# Altium integrated library Actel IGLOO.IntLib: 429 symbols (part 8 of 45)
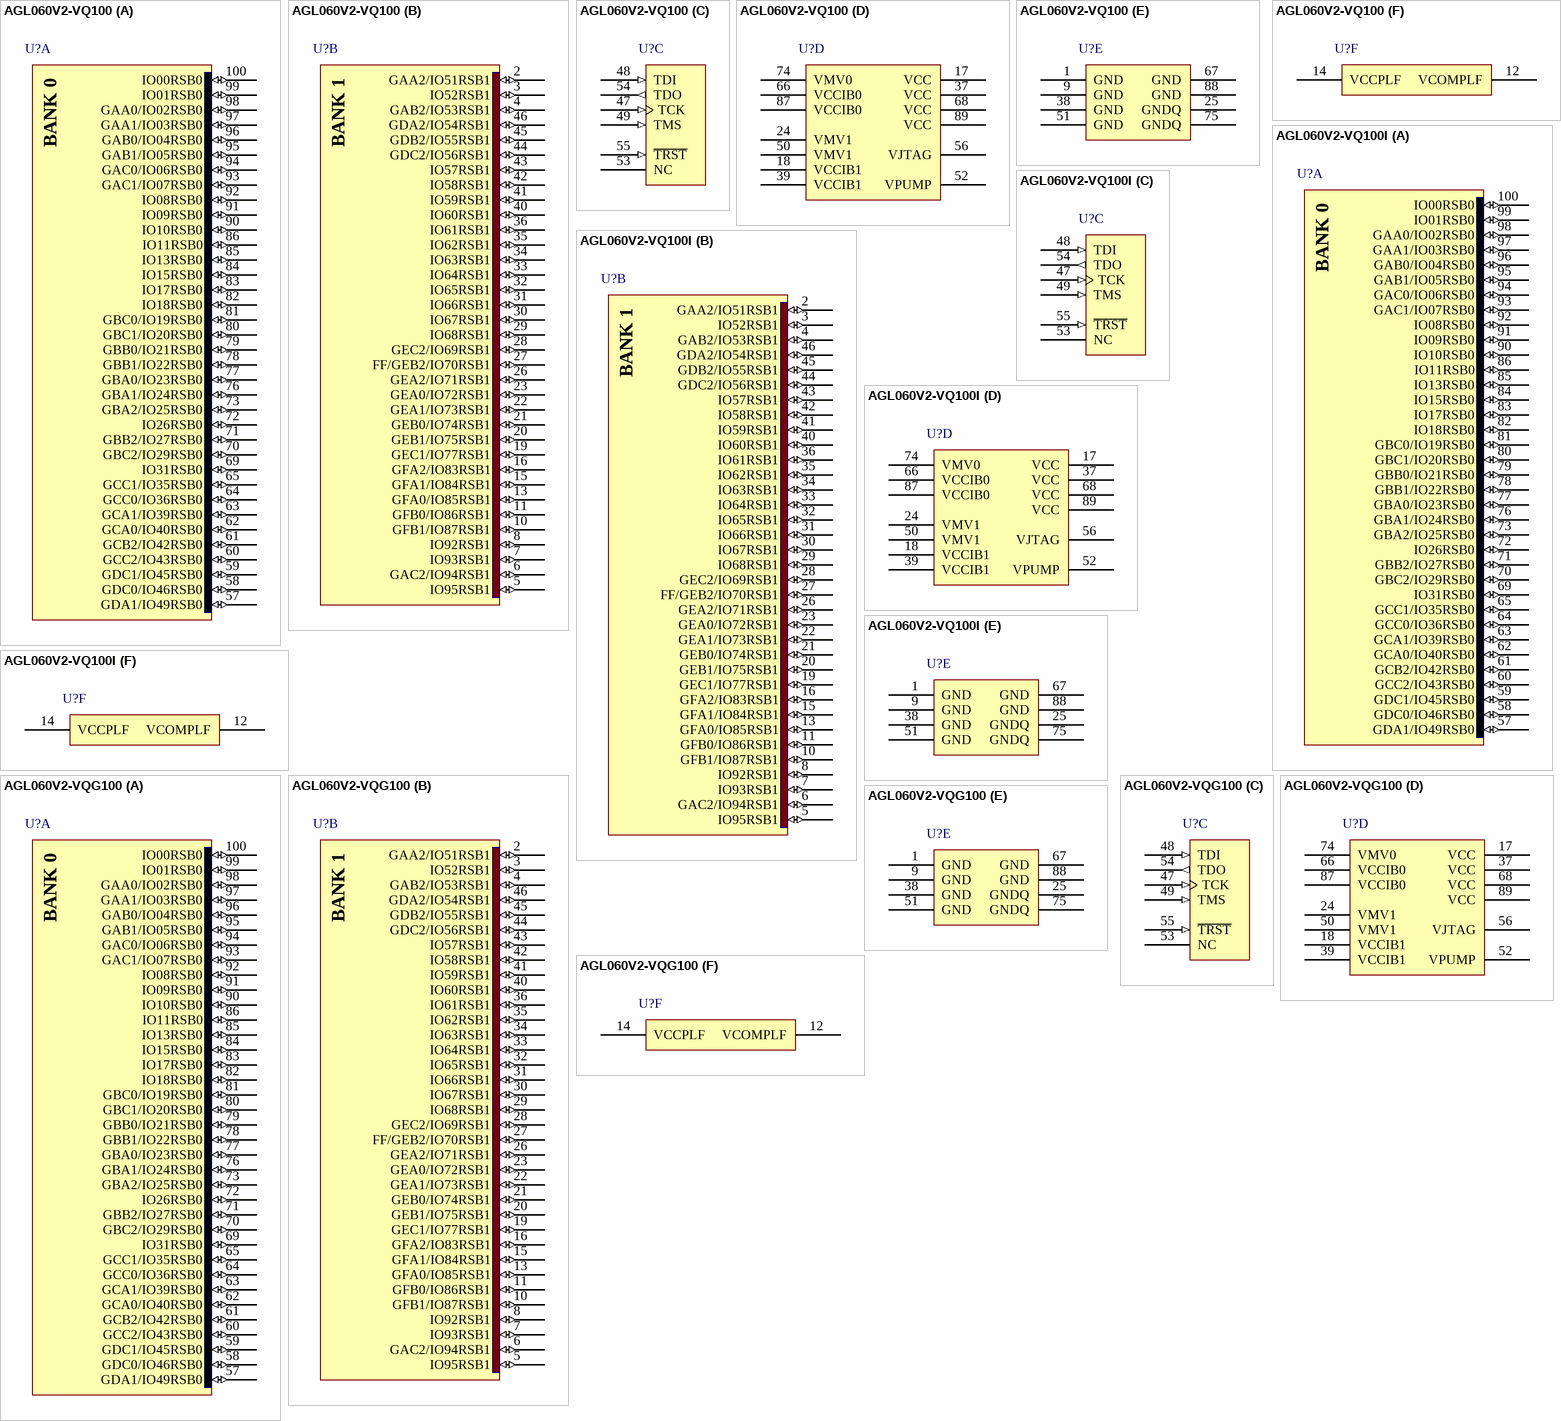
[diagram p360: symbols AGL060V2-VQ100 to AGL060V2-VQG100]

## AGL060V2-VQ100I
designator U?
IGLOO Low-Power Flash 1.2/1.5V FPGA with Flash*Freeze, 71 User IOs, 60K System Gates, 18Kbits RAM, 1Kbit Flash ROM, 1 PLL, 100-Pin TQFP, Industrial Grade; DatasheetVersion: v2.0, Nov-2009; PackageVersion: rev40, Jun-2011; PackageReference: VQ100; PackageDescription: 100-Pin Plastic Quad Flat Pack (VQ100); Code_JEDEC: MS-026-AED; ComponentLink1Description: Manufacturer URL; ComponentLink1URL: http://www.actel.com/; ComponentLink2Description: IGLOO Datasheet; ComponentLink2URL: http://www.actel.com/documents/IGLOO_DS.pdf; ComponentLink3Description: Package Mechanical Drawings; ComponentLink3URL: http://www.actel.com/documents/PckgMechDrwngs.pdf; ComponentLink4Description: IGLOO Documents; ComponentLink4URL: http://www.actel.com/products/igloo/docs.aspx
footprint VQ100_N (Thin QFP, 100-Leads, Body 14x14mm, Pitch 0.5mm, IPC Medium Density)
footprint VQ100_L (Thin QFP, 100-Leads, Body 14x14mm, Pitch 0.5mm, IPC High Density)
footprint VQ100_M (Thin QFP, 100-Leads, Body 14x14mm, Pitch 0.5mm, IPC Low Density)
part A pins: 57 GDA1/IO49RSB0 (io), 58 GDC0/IO46RSB0 (io), 59 GDC1/IO45RSB0 (io), 60 GCC2/IO43RSB0 (io), 61 GCB2/IO42RSB0 (io), 62 GCA0/IO40RSB0 (io), 63 GCA1/IO39RSB0 (io), 64 GCC0/IO36RSB0 (io), 65 GCC1/IO35RSB0 (io), 69 IO31RSB0 (io), 70 GBC2/IO29RSB0 (io), 71 GBB2/IO27RSB0 (io), 72 IO26RSB0 (io), 73 GBA2/IO25RSB0 (io), 76 GBA1/IO24RSB0 (io), 77 GBA0/IO23RSB0 (io), 78 GBB1/IO22RSB0 (io), 79 GBB0/IO21RSB0 (io), 80 GBC1/IO20RSB0 (io), 81 GBC0/IO19RSB0 (io), 82 IO18RSB0 (io), 83 IO17RSB0 (io), 84 IO15RSB0 (io), 85 IO13RSB0 (io), 86 IO11RSB0 (io), 90 IO10RSB0 (io), 91 IO09RSB0 (io), 92 IO08RSB0 (io), 93 GAC1/IO07RSB0 (io), 94 GAC0/IO06RSB0 (io), 95 GAB1/IO05RSB0 (io), 96 GAB0/IO04RSB0 (io), 97 GAA1/IO03RSB0 (io), 98 GAA0/IO02RSB0 (io), 99 IO01RSB0 (io), 100 IO00RSB0 (io)
part B pins: 2 GAA2/IO51RSB1 (io), 3 IO52RSB1 (io), 4 GAB2/IO53RSB1 (io), 5 IO95RSB1 (io), 6 GAC2/IO94RSB1 (io), 7 IO93RSB1 (io), 8 IO92RSB1 (io), 10 GFB1/IO87RSB1 (io), 11 GFB0/IO86RSB1 (io), 13 GFA0/IO85RSB1 (io), 15 GFA1/IO84RSB1 (io), 16 GFA2/IO83RSB1 (io), 19 GEC1/IO77RSB1 (io), 20 GEB1/IO75RSB1 (io), 21 GEB0/IO74RSB1 (io), 22 GEA1/IO73RSB1 (io), 23 GEA0/IO72RSB1 (io), 26 GEA2/IO71RSB1 (io), 27 FF/GEB2/IO70RSB1 (io), 28 GEC2/IO69RSB1 (io), 29 IO68RSB1 (io), 30 IO67RSB1 (io), 31 IO66RSB1 (io), 32 IO65RSB1 (io), 33 IO64RSB1 (io), 34 IO63RSB1 (io), 35 IO62RSB1 (io), 36 IO61RSB1 (io), 40 IO60RSB1 (io), 41 IO59RSB1 (io), 42 IO58RSB1 (io), 43 IO57RSB1 (io), 44 GDC2/IO56RSB1 (io), 45 GDB2/IO55RSB1 (io), 46 GDA2/IO54RSB1 (io)
part C pins: 47 TCK (in), 48 TDI (in), 49 TMS (in), 53 NC, 54 TDO (out), 55 ~{TRST} (in)
part D pins: 17 VCC (power), 18 VCCIB1 (power), 24 VMV1 (power), 37 VCC (power), 39 VCCIB1 (power), 50 VMV1 (power), 52 VPUMP (power), 56 VJTAG (power), 66 VCCIB0 (power), 68 VCC (power), 74 VMV0 (power), 87 VCCIB0 (power), 89 VCC (power)
part E pins: 1 GND (power), 9 GND (power), 25 GNDQ (power), 38 GND (power), 51 GND (power), 67 GND (power), 75 GNDQ (power), 88 GND (power)
part F pins: 12 VCOMPLF (power), 14 VCCPLF (power)
part A text: BANK 0
part B text: BANK 1

## AGL060V2-VQG100
designator U?
IGLOO Low-Power Flash 1.2/1.5V FPGA with Flash*Freeze, 71 User IOs, 60K System Gates, 18Kbits RAM, 1Kbit Flash ROM, 1 PLL, 100-Pin TQFP, Commercial Grade, Pb-Free; DatasheetVersion: v2.0, Nov-2009; PackageVersion: rev40, Jun-2011; PackageReference: VQ100; PackageDescription: 100-Pin Plastic Quad Flat Pack (VQ100); Code_JEDEC: MS-026-AED; ComponentLink1Description: Manufacturer URL; ComponentLink1URL: http://www.actel.com/; ComponentLink2Description: IGLOO Datasheet; ComponentLink2URL: http://www.actel.com/documents/IGLOO_DS.pdf; ComponentLink3Description: Package Mechanical Drawings; ComponentLink3URL: http://www.actel.com/documents/PckgMechDrwngs.pdf; ComponentLink4Description: IGLOO Documents; ComponentLink4URL: http://www.actel.com/products/igloo/docs.aspx
footprint VQ100_N (Thin QFP, 100-Leads, Body 14x14mm, Pitch 0.5mm, IPC Medium Density)
footprint VQ100_L (Thin QFP, 100-Leads, Body 14x14mm, Pitch 0.5mm, IPC High Density)
footprint VQ100_M (Thin QFP, 100-Leads, Body 14x14mm, Pitch 0.5mm, IPC Low Density)
part A pins: 57 GDA1/IO49RSB0 (io), 58 GDC0/IO46RSB0 (io), 59 GDC1/IO45RSB0 (io), 60 GCC2/IO43RSB0 (io), 61 GCB2/IO42RSB0 (io), 62 GCA0/IO40RSB0 (io), 63 GCA1/IO39RSB0 (io), 64 GCC0/IO36RSB0 (io), 65 GCC1/IO35RSB0 (io), 69 IO31RSB0 (io), 70 GBC2/IO29RSB0 (io), 71 GBB2/IO27RSB0 (io), 72 IO26RSB0 (io), 73 GBA2/IO25RSB0 (io), 76 GBA1/IO24RSB0 (io), 77 GBA0/IO23RSB0 (io), 78 GBB1/IO22RSB0 (io), 79 GBB0/IO21RSB0 (io), 80 GBC1/IO20RSB0 (io), 81 GBC0/IO19RSB0 (io), 82 IO18RSB0 (io), 83 IO17RSB0 (io), 84 IO15RSB0 (io), 85 IO13RSB0 (io), 86 IO11RSB0 (io), 90 IO10RSB0 (io), 91 IO09RSB0 (io), 92 IO08RSB0 (io), 93 GAC1/IO07RSB0 (io), 94 GAC0/IO06RSB0 (io), 95 GAB1/IO05RSB0 (io), 96 GAB0/IO04RSB0 (io), 97 GAA1/IO03RSB0 (io), 98 GAA0/IO02RSB0 (io), 99 IO01RSB0 (io), 100 IO00RSB0 (io)
part B pins: 2 GAA2/IO51RSB1 (io), 3 IO52RSB1 (io), 4 GAB2/IO53RSB1 (io), 5 IO95RSB1 (io), 6 GAC2/IO94RSB1 (io), 7 IO93RSB1 (io), 8 IO92RSB1 (io), 10 GFB1/IO87RSB1 (io), 11 GFB0/IO86RSB1 (io), 13 GFA0/IO85RSB1 (io), 15 GFA1/IO84RSB1 (io), 16 GFA2/IO83RSB1 (io), 19 GEC1/IO77RSB1 (io), 20 GEB1/IO75RSB1 (io), 21 GEB0/IO74RSB1 (io), 22 GEA1/IO73RSB1 (io), 23 GEA0/IO72RSB1 (io), 26 GEA2/IO71RSB1 (io), 27 FF/GEB2/IO70RSB1 (io), 28 GEC2/IO69RSB1 (io), 29 IO68RSB1 (io), 30 IO67RSB1 (io), 31 IO66RSB1 (io), 32 IO65RSB1 (io), 33 IO64RSB1 (io), 34 IO63RSB1 (io), 35 IO62RSB1 (io), 36 IO61RSB1 (io), 40 IO60RSB1 (io), 41 IO59RSB1 (io), 42 IO58RSB1 (io), 43 IO57RSB1 (io), 44 GDC2/IO56RSB1 (io), 45 GDB2/IO55RSB1 (io), 46 GDA2/IO54RSB1 (io)
part C pins: 47 TCK (in), 48 TDI (in), 49 TMS (in), 53 NC, 54 TDO (out), 55 ~{TRST} (in)
part D pins: 17 VCC (power), 18 VCCIB1 (power), 24 VMV1 (power), 37 VCC (power), 39 VCCIB1 (power), 50 VMV1 (power), 52 VPUMP (power), 56 VJTAG (power), 66 VCCIB0 (power), 68 VCC (power), 74 VMV0 (power), 87 VCCIB0 (power), 89 VCC (power)
part E pins: 1 GND (power), 9 GND (power), 25 GNDQ (power), 38 GND (power), 51 GND (power), 67 GND (power), 75 GNDQ (power), 88 GND (power)
part F pins: 12 VCOMPLF (power), 14 VCCPLF (power)
part A text: BANK 0
part B text: BANK 1

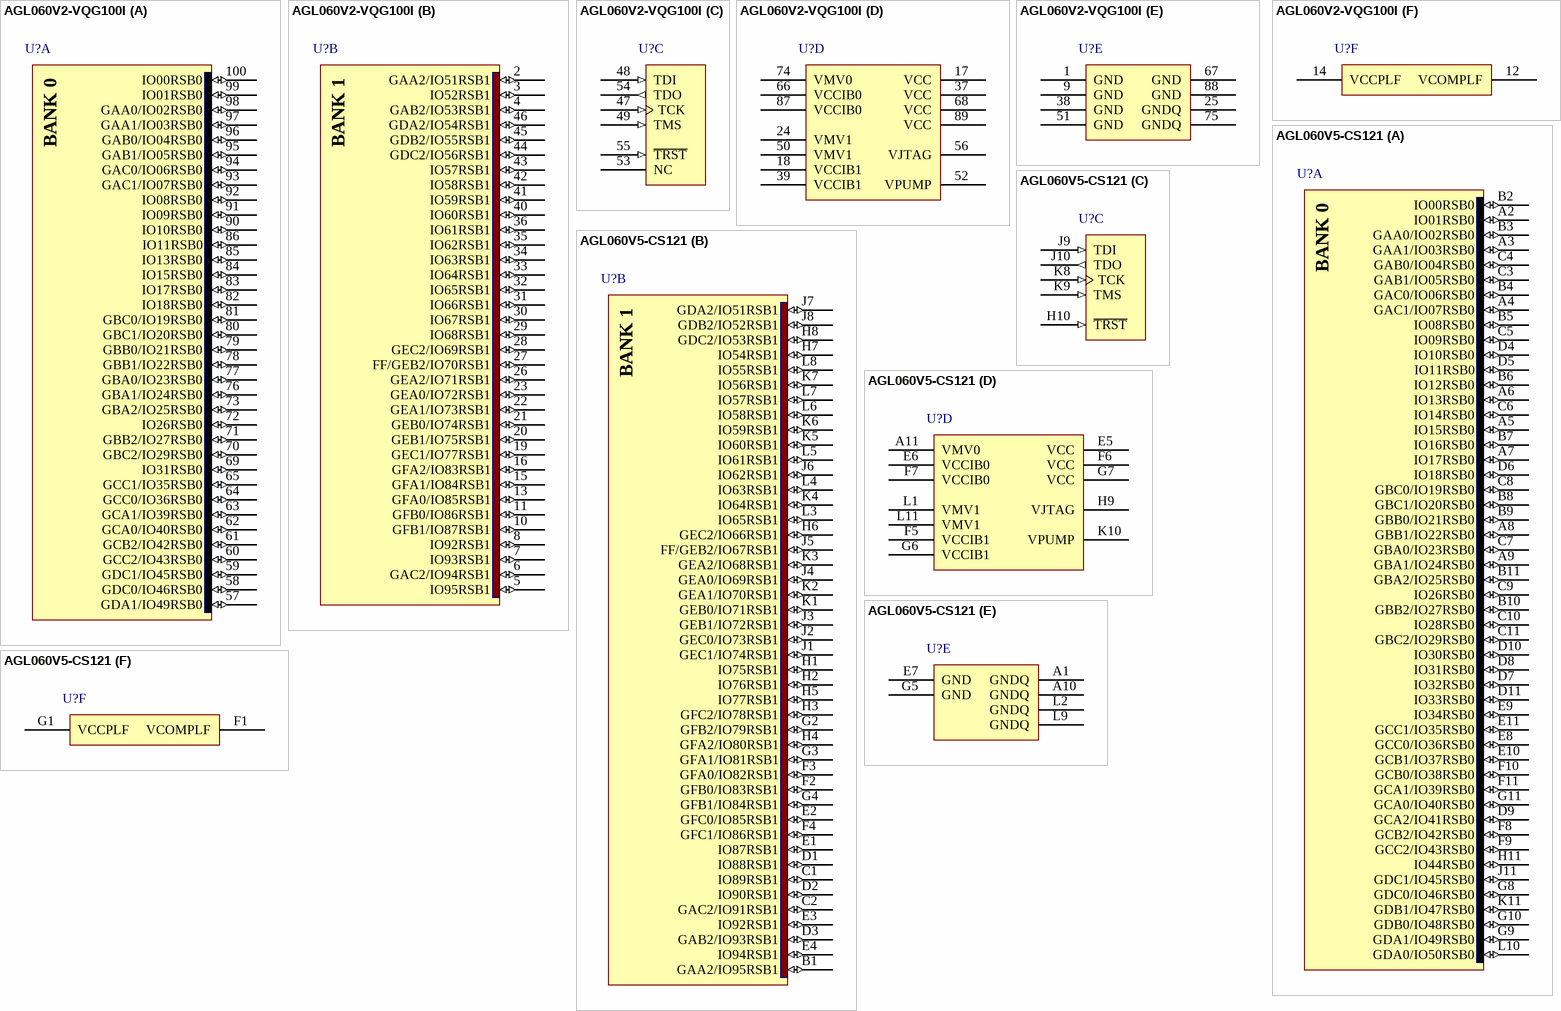
[diagram p24: symbols AGL060V2-VQG100I to AGL060V5-CS121]

## AGL060V2-VQG100I
designator U?
IGLOO Low-Power Flash 1.2/1.5V FPGA with Flash*Freeze, 71 User IOs, 60K System Gates, 18Kbits RAM, 1Kbit Flash ROM, 1 PLL, 100-Pin TQFP, Industrial Grade, Pb-Free; DatasheetVersion: v2.0, Nov-2009; PackageVersion: rev40, Jun-2011; PackageReference: VQ100; PackageDescription: 100-Pin Plastic Quad Flat Pack (VQ100); Code_JEDEC: MS-026-AED; ComponentLink1Description: Manufacturer URL; ComponentLink1URL: http://www.actel.com/; ComponentLink2Description: IGLOO Datasheet; ComponentLink2URL: http://www.actel.com/documents/IGLOO_DS.pdf; ComponentLink3Description: Package Mechanical Drawings; ComponentLink3URL: http://www.actel.com/documents/PckgMechDrwngs.pdf; ComponentLink4Description: IGLOO Documents; ComponentLink4URL: http://www.actel.com/products/igloo/docs.aspx
footprint VQ100_N (Thin QFP, 100-Leads, Body 14x14mm, Pitch 0.5mm, IPC Medium Density)
footprint VQ100_L (Thin QFP, 100-Leads, Body 14x14mm, Pitch 0.5mm, IPC High Density)
footprint VQ100_M (Thin QFP, 100-Leads, Body 14x14mm, Pitch 0.5mm, IPC Low Density)
part A pins: 57 GDA1/IO49RSB0 (io), 58 GDC0/IO46RSB0 (io), 59 GDC1/IO45RSB0 (io), 60 GCC2/IO43RSB0 (io), 61 GCB2/IO42RSB0 (io), 62 GCA0/IO40RSB0 (io), 63 GCA1/IO39RSB0 (io), 64 GCC0/IO36RSB0 (io), 65 GCC1/IO35RSB0 (io), 69 IO31RSB0 (io), 70 GBC2/IO29RSB0 (io), 71 GBB2/IO27RSB0 (io), 72 IO26RSB0 (io), 73 GBA2/IO25RSB0 (io), 76 GBA1/IO24RSB0 (io), 77 GBA0/IO23RSB0 (io), 78 GBB1/IO22RSB0 (io), 79 GBB0/IO21RSB0 (io), 80 GBC1/IO20RSB0 (io), 81 GBC0/IO19RSB0 (io), 82 IO18RSB0 (io), 83 IO17RSB0 (io), 84 IO15RSB0 (io), 85 IO13RSB0 (io), 86 IO11RSB0 (io), 90 IO10RSB0 (io), 91 IO09RSB0 (io), 92 IO08RSB0 (io), 93 GAC1/IO07RSB0 (io), 94 GAC0/IO06RSB0 (io), 95 GAB1/IO05RSB0 (io), 96 GAB0/IO04RSB0 (io), 97 GAA1/IO03RSB0 (io), 98 GAA0/IO02RSB0 (io), 99 IO01RSB0 (io), 100 IO00RSB0 (io)
part B pins: 2 GAA2/IO51RSB1 (io), 3 IO52RSB1 (io), 4 GAB2/IO53RSB1 (io), 5 IO95RSB1 (io), 6 GAC2/IO94RSB1 (io), 7 IO93RSB1 (io), 8 IO92RSB1 (io), 10 GFB1/IO87RSB1 (io), 11 GFB0/IO86RSB1 (io), 13 GFA0/IO85RSB1 (io), 15 GFA1/IO84RSB1 (io), 16 GFA2/IO83RSB1 (io), 19 GEC1/IO77RSB1 (io), 20 GEB1/IO75RSB1 (io), 21 GEB0/IO74RSB1 (io), 22 GEA1/IO73RSB1 (io), 23 GEA0/IO72RSB1 (io), 26 GEA2/IO71RSB1 (io), 27 FF/GEB2/IO70RSB1 (io), 28 GEC2/IO69RSB1 (io), 29 IO68RSB1 (io), 30 IO67RSB1 (io), 31 IO66RSB1 (io), 32 IO65RSB1 (io), 33 IO64RSB1 (io), 34 IO63RSB1 (io), 35 IO62RSB1 (io), 36 IO61RSB1 (io), 40 IO60RSB1 (io), 41 IO59RSB1 (io), 42 IO58RSB1 (io), 43 IO57RSB1 (io), 44 GDC2/IO56RSB1 (io), 45 GDB2/IO55RSB1 (io), 46 GDA2/IO54RSB1 (io)
part C pins: 47 TCK (in), 48 TDI (in), 49 TMS (in), 53 NC, 54 TDO (out), 55 ~{TRST} (in)
part D pins: 17 VCC (power), 18 VCCIB1 (power), 24 VMV1 (power), 37 VCC (power), 39 VCCIB1 (power), 50 VMV1 (power), 52 VPUMP (power), 56 VJTAG (power), 66 VCCIB0 (power), 68 VCC (power), 74 VMV0 (power), 87 VCCIB0 (power), 89 VCC (power)
part E pins: 1 GND (power), 9 GND (power), 25 GNDQ (power), 38 GND (power), 51 GND (power), 67 GND (power), 75 GNDQ (power), 88 GND (power)
part F pins: 12 VCOMPLF (power), 14 VCCPLF (power)
part A text: BANK 0
part B text: BANK 1

## AGL060V5-CS121
designator U?
IGLOO Low-Power Flash 1.5V FPGA with Flash*Freeze, 96 User IOs, 60K System Gates, 18Kbits RAM, 1Kbit Flash ROM, 1 PLL, 121-Pin CSP, Commercial Grade; DatasheetVersion: v2.0, Nov-2009; PackageVersion: rev40, Jun-2011; PackageReference: CS121; PackageDescription: 121-Ball Chip Scale Ball Grid Array 0.5 mm Pitch (CS121); Code_JEDEC: MO-195-AC; ComponentLink1Description: Manufacturer URL; ComponentLink1URL: http://www.actel.com/; ComponentLink2Description: IGLOO Datasheet; ComponentLink2URL: http://www.actel.com/documents/IGLOO_DS.pdf; ComponentLink3Description: Package Mechanical Drawings; ComponentLink3URL: http://www.actel.com/documents/PckgMechDrwngs.pdf; ComponentLink4Description: IGLOO Documents; ComponentLink4URL: http://www.actel.com/products/igloo/docs.aspx
footprint CS121 (BGA, 121-Leads, Body 6x6mm, Pitch 0.5mm)
part A pins: A2 IO01RSB0 (io), A3 GAA1/IO03RSB0 (io), A4 GAC1/IO07RSB0 (io), A5 IO15RSB0 (io), A6 IO13RSB0 (io), A7 IO17RSB0 (io), A8 GBB1/IO22RSB0 (io), A9 GBA1/IO24RSB0 (io), B2 IO00RSB0 (io), B3 GAA0/IO02RSB0 (io), B4 GAC0/IO06RSB0 (io), B5 IO08RSB0 (io), B6 IO12RSB0 (io), B7 IO16RSB0 (io), B8 GBC1/IO20RSB0 (io), B9 GBB0/IO21RSB0 (io), B10 GBB2/IO27RSB0 (io), B11 GBA2/IO25RSB0 (io), C3 GAB1/IO05RSB0 (io), C4 GAB0/IO04RSB0 (io), C5 IO09RSB0 (io), C6 IO14RSB0 (io), C7 GBA0/IO23RSB0 (io), C8 GBC0/IO19RSB0 (io), C9 IO26RSB0 (io), C10 IO28RSB0 (io), C11 GBC2/IO29RSB0 (io), D4 IO10RSB0 (io), D5 IO11RSB0 (io), D6 IO18RSB0 (io), D7 IO32RSB0 (io), D8 IO31RSB0 (io), D9 GCA2/IO41RSB0 (io), D10 IO30RSB0 (io), D11 IO33RSB0 (io), E8 GCC0/IO36RSB0 (io), E9 IO34RSB0 (io), E10 GCB1/IO37RSB0 (io), E11 GCC1/IO35RSB0 (io), F8 GCB2/IO42RSB0 (io), F9 GCC2/IO43RSB0 (io), F10 GCB0/IO38RSB0 (io), F11 GCA1/IO39RSB0 (io), G8 GDC0/IO46RSB0 (io), G9 GDA1/IO49RSB0 (io), G10 GDB0/IO48RSB0 (io), G11 GCA0/IO40RSB0 (io), H11 IO44RSB0 (io), J11 GDC1/IO45RSB0 (io), K11 GDB1/IO47RSB0 (io), L10 GDA0/IO50RSB0 (io)
part B pins: B1 GAA2/IO95RSB1 (io), C1 IO89RSB1 (io), C2 GAC2/IO91RSB1 (io), D1 IO88RSB1 (io), D2 IO90RSB1 (io), D3 GAB2/IO93RSB1 (io), E1 IO87RSB1 (io), E2 GFC0/IO85RSB1 (io), E3 IO92RSB1 (io), E4 IO94RSB1 (io), F2 GFB0/IO83RSB1 (io), F3 GFA0/IO82RSB1 (io), F4 GFC1/IO86RSB1 (io), G2 GFB2/IO79RSB1 (io), G3 GFA1/IO81RSB1 (io), G4 GFB1/IO84RSB1 (io), H1 IO75RSB1 (io), H2 IO76RSB1 (io), H3 GFC2/IO78RSB1 (io), H4 GFA2/IO80RSB1 (io), H5 IO77RSB1 (io), H6 GEC2/IO66RSB1 (io), H7 IO54RSB1 (io), H8 GDC2/IO53RSB1 (io), J1 GEC1/IO74RSB1 (io), J2 GEC0/IO73RSB1 (io), J3 GEB1/IO72RSB1 (io), J4 GEA0/IO69RSB1 (io), J5 FF/GEB2/IO67RSB1 (io), J6 IO62RSB1 (io), J7 GDA2/IO51RSB1 (io), J8 GDB2/IO52RSB1 (io), K1 GEB0/IO71RSB1 (io), K2 GEA1/IO70RSB1 (io), K3 GEA2/IO68RSB1 (io), K4 IO64RSB1 (io), K5 IO60RSB1 (io), K6 IO59RSB1 (io), K7 IO56RSB1 (io), L3 IO65RSB1 (io), L4 IO63RSB1 (io), L5 IO61RSB1 (io), L6 IO58RSB1 (io), L7 IO57RSB1 (io), L8 IO55RSB1 (io)
part C pins: H10 ~{TRST} (in), J9 TDI (in), J10 TDO (out), K8 TCK (in), K9 TMS (in)
part D pins: A11 VMV0 (power), E5 VCC (power), E6 VCCIB0 (power), F5 VCCIB1 (power), F6 VCC (power), F7 VCCIB0 (power), G6 VCCIB1 (power), G7 VCC (power), H9 VJTAG (power), K10 VPUMP (power), L1 VMV1 (power), L11 VMV1 (power)
part E pins: A1 GNDQ (power), A10 GNDQ (power), E7 GND (power), G5 GND (power), L2 GNDQ (power), L9 GNDQ (power)
part F pins: F1 VCOMPLF (power), G1 VCCPLF (power)
part A text: BANK 0
part B text: BANK 1

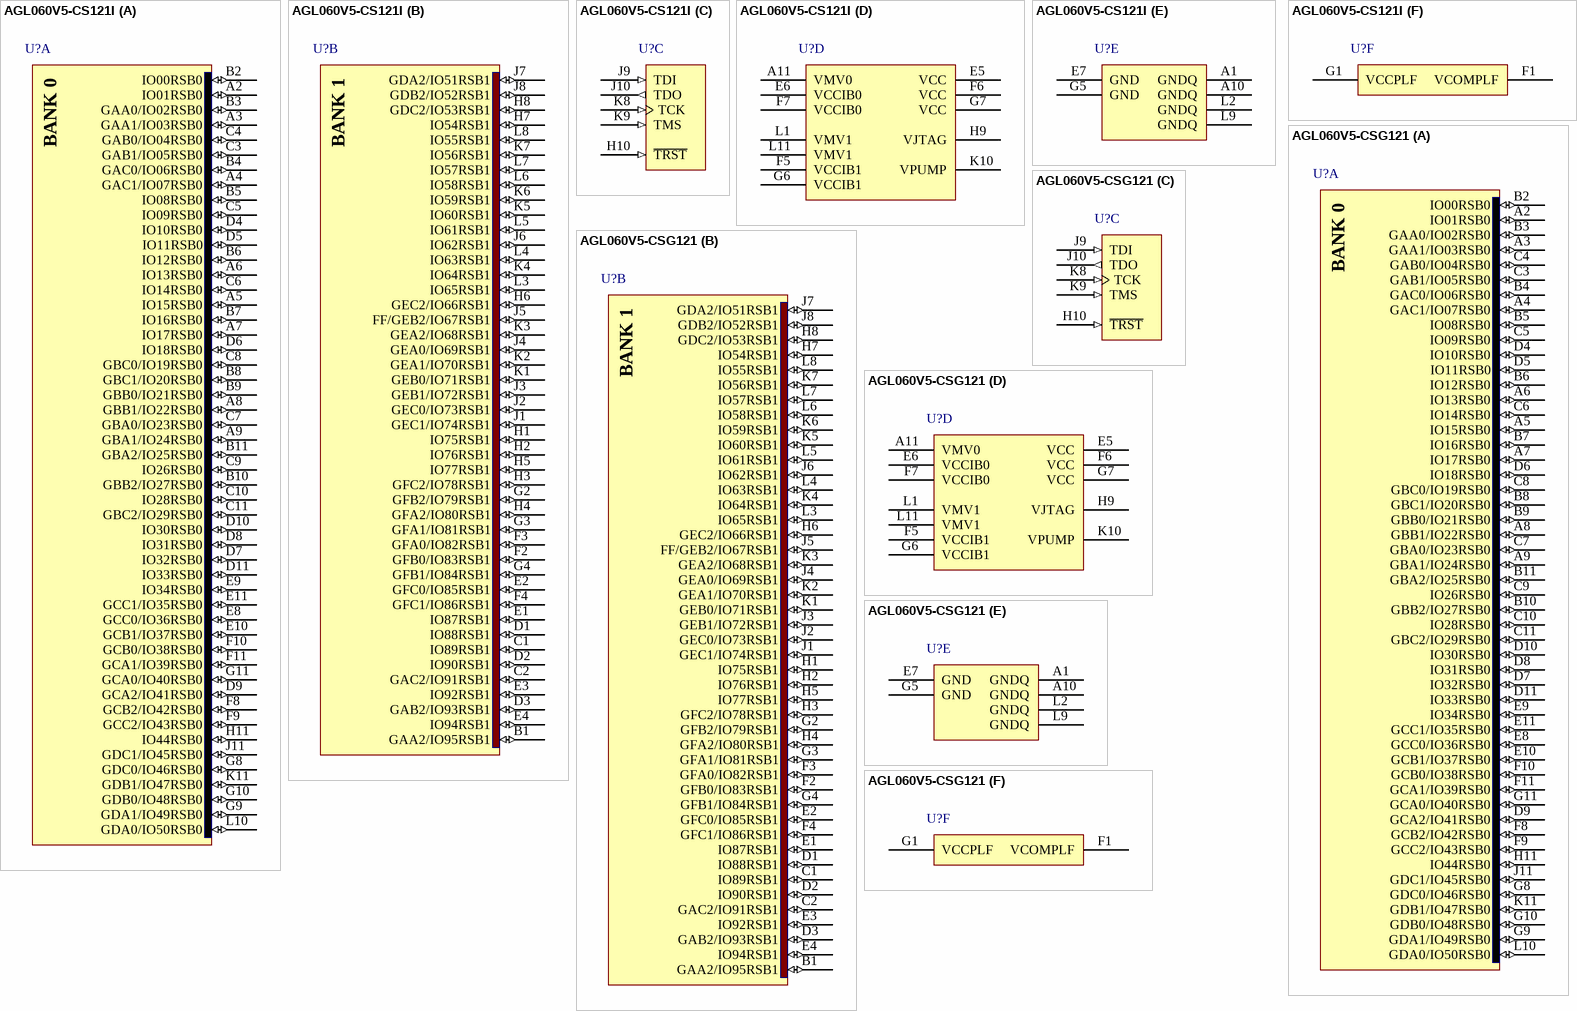
[diagram p25: symbols AGL060V5-CS121I to AGL060V5-CSG121]